# Altium footprint library USB-TTL Converter.PcbLib: 9 footprints
Each footprint in its own frame and in the unit in brackets; x right, y up, seen from the top. Pads: shape width x height; smd on the part's side, far side on the other; paste and mask are expansions set on the pad; w line width, h text height; cw(c..) or ccw(c..) is an arc to the next point about the centre after c.
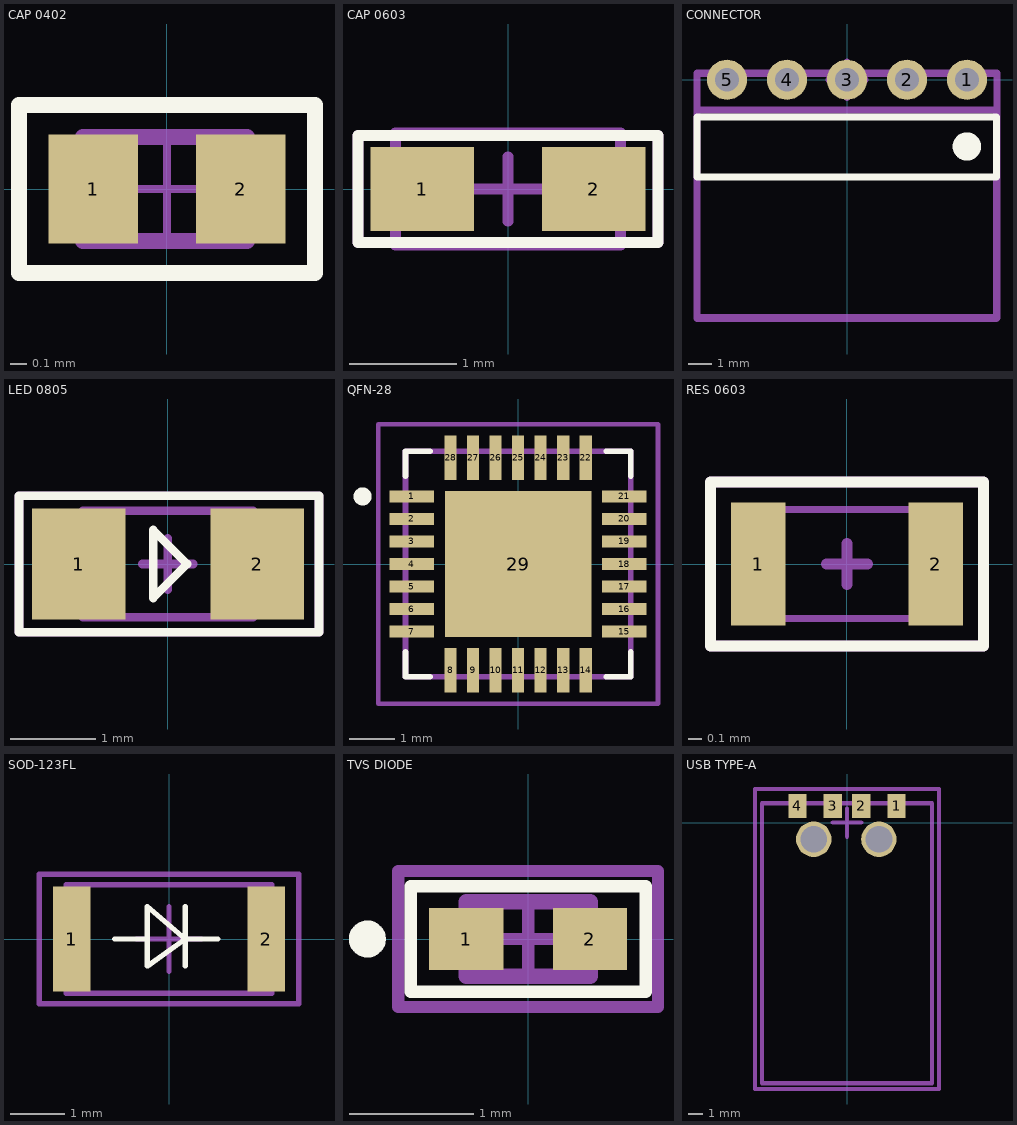
[diagram p0: the footprints below, top view; thin cyan lines are the x and y axes]

## CAP 0402 [mm]
pads (2):
  rect 0.56x0.68 smd: 1(-0.46,0) 2(0.46,0)
Top Overlay:
  lines w0.1: -0.925,-0.525 0.925,-0.525 0.925,0.525 -0.925,0.525 -0.925,-0.525
Top 3D Body:
  lines w0.1: -0.525,-0.325 0.5,-0.325 0.5,0.325 -0.525,0.325 -0.525,-0.325
Top Designator (Mech7):
  lines w0.05: -0.925,-0.525 0.95,-0.525 0.95,0.525 -0.925,0.525 -0.925,-0.525
  text ".Designator" at -0.325,-0.183 h0.5
Top Component Center (Mech9):
  lines w0.05: -0.3,0 0,0 ; 0,-0.3 0,0 ; 0,0.3 0,0 ; 0.3,0 0,0 ; -0.925,-0.525 -0.925,0.525 0.95,0.525 0.95,-0.525 -0.925,-0.525
3D body "step_temp.STEP": height 0.5, standoff 0, extent -0.5,-0.326 0.5,0.324

## CAP 0603 [mil]
pads (2):
  rect 38x31 smd mask+1.97: 1(-31.5,0) 2(31.5,0)
Top Overlay:
  lines w3.94: -55.12,-19.68 27.56,-19.68 55.12,-19.68 55.12,19.68 -51.18,19.68 -55.12,19.68 -55.12,-19.68
Top 3D Body:
  lines w3.94: -41.34,-20.67 41.34,-20.67 41.34,20.67 -41.34,20.67 -41.34,-20.67
Top Designator (Mech7):
  lines w3.94: -53.15,19.68 11.81,19.68 55.12,19.68 55.12,-19.68 -55.12,-19.68 -55.12,19.68 -39.37,19.68
  text ".Designator" at -39.37,-9.19 h19.68
Top Component Center (Mech9):
  lines w3.94: -55.12,19.68 -55.12,-19.68 -13.78,-19.68 55.12,-19.68 55.12,19.68 -53.15,19.68 ; -11.81,0 11.81,0 ; 0,-11.81 0,11.81
3D body "CAPC0603.STEP": height 30.75, standoff -0.75, extent -41.35,-20.51 41.35,20

## CONNECTOR [mm]
pads (5):
  round 1.7 hole 1 mask+0.05: 1(5.08,0) 2(2.54,0) 3(0,0) 4(-2.54,0) 5(-5.08,0)
Top Overlay:
  circle w0.8: c5.075,-2.825 r0.2
  lines w0.3: -6.35,-4.125 6.325,-4.125 6.325,-1.575 -6.35,-1.575 -6.35,-4.125
Top 3D Body:
  lines w0.3: -6.35,-10.075 6.35,-10.075 6.35,0.275 -6.35,0.275 -6.35,-10.075
Top Designator (Mech7):
  lines w0.3: -6.35,-10.086 6.348,-10.086 6.348,-1.275 -6.35,-1.275 -6.35,-10.086
  text ".Designator" at -1.225,-6.084 h2
Top Component Center (Mech9):
  lines w0.3: -0.75,0 0,0 ; 0,-0.75 0,0 ; 0,0.75 0,0 ; 0.75,0 0,0 ; -6.35,-10.1 -6.35,-1.275 6.325,-1.275 6.325,-10.1 -6.35,-10.1
3D body "61300511021_Download_STP_61300511021_rev1.stp": height 2.57, standoff -2.97, extent -6.35,-10.07 6.35,0.29

## LED 0805 [mm]
pads (2):
  rect 1.1x1.3 smd mask+0.05: 1(-1.05,0) 2(1.05,0)
Top Overlay:
  lines w0.1: -1.75,-0.8 1.775,-0.8 1.775,0.8 -1.75,0.8 -1.75,-0.8 ; -0.175,-0.4 0.225,0 -0.175,0.4 -0.175,-0.4
Top 3D Body:
  lines w0.1: -1,-0.625 -1,0.625 1,0.625 1,-0.625 -1,-0.625
Top Designator (Mech7):
  lines w0.1: -1.75,-0.8 1.775,-0.8 1.775,0.8 -1.75,0.8 -1.75,-0.8
  text ".Designator" at -0.625,-0.517 h1
Top Component Center (Mech9):
  lines w0.1: -0.3,0 0,0 ; 0,-0.3 0,0 ; 0,0.3 0,0 ; 0.3,0 0,0 ; -1.75,-0.8 1.775,-0.8 1.775,0.8 -1.75,0.8 -1.75,-0.8
3D body "Download_STP_WL-SMCW-0805_rev1.stp": height 0.7, standoff 0, extent -1,-0.625 1,0.625

## QFN-28 [mm]
pads (29):
  rect 0.99x0.27 smd: 1(-2.36,1.5) 2(-2.36,1) 3(-2.36,0.5) 4(-2.36,0) 5(-2.36,-0.5) 6(-2.36,-1) 7(-2.36,-1.5) 15(2.36,-1.5) 16(2.36,-1) 17(2.36,-0.5) 18(2.36,0) 19(2.36,0.5) 20(2.36,1) 21(2.36,1.5)
  rect 0.27x0.99 smd: 8(-1.5,-2.36) 9(-1,-2.36) 10(-0.5,-2.36) 11(0,-2.36) 12(0.5,-2.36) 13(1,-2.36) 14(1.5,-2.36) 22(1.5,2.36) 23(1,2.36) 24(0.5,2.36) 25(0,2.36) 26(-0.5,2.36) 27(-1,2.36) 28(-1.5,2.36)
  rect 3.25x3.25 smd paste-0.597: 29(0,0)
Top Overlay:
  circle w0.2: c-3.455,1.5 r0.1
  lines w0.127: -2.5,-1.955 -2.5,-2.5 -1.955,-2.5 ; -2.5,1.955 -2.5,2.5 -1.955,2.5 ; 1.955,-2.5 2.5,-2.5 2.5,-1.955 ; 1.955,2.5 2.5,2.5 2.5,1.955
Top 3D Body:
  lines w0.127: -2.5,-2.5 2.5,-2.5 2.5,2.5 -2.5,2.5 -2.5,-2.5
Top Designator (Mech7):
  lines w0.1: -3.105,-3.105 -3.105,3.105 3.105,3.105 3.105,-3.105 -3.105,-3.105
  text ".Designator" at -0.725,-0.717 h1
Top Component Center (Mech9):
  lines w0.1: -3.105,-3.105 -3.105,3.105 3.105,3.105 3.105,-3.105 -3.105,-3.105
3D body "step_temp.STEP": height 0.77, standoff -0.03, extent -2.5,-2.5 2.5,2.5

## RES 0603 [mm]
pads (2):
  rect 0.4x0.9 smd mask+0.05: 1(-0.65,0) 2(0.65,0)
Top Overlay:
  lines w0.08: -1,-0.6 1,-0.6 1,0.6 -1,0.6 -1,-0.6
Top 3D Body:
  lines w0.05: -0.8,-0.4 -0.8,0.4 0.8,0.4 0.8,-0.4 -0.8,-0.4
Top Designator (Mech7):
  lines w0.08: -1,-0.6 -1,0.6 1,0.6 1,-0.6 -1,-0.6
  text ".Designator" at -0.27,-0.27 h0.6
Top Component Center (Mech9):
  lines w0.08: -0.15,0 0,0 ; 0,-0.15 0,0 ; 0,0.15 0,0 ; 0.15,0 0,0 ; -1,-0.6 1,-0.6 1,0.6 -1,0.6 -1,-0.6
3D body "RC0603FR-0747KL.step": height 0.55, standoff 0, extent -0.8,-0.4 0.8,0.4

## SOD-123FL [mm]
pads (2):
  rect 0.7x1.95 smd mask+0.102: 1(-1.8,0) 2(1.8,0)
Top Overlay:
  lines w0.1: -1,0 -0.4,0 -0.4,0.6 ; 0.9,0 0.3,0 ; -0.4,0.6 -0.4,-0.5 0.3,0 ; -0.4,0.6 0.3,0 ; 0.3,0 0.3,0.6 0.3,0 ; 0.3,0 0.3,-0.5 0.3,0
Top 3D Body:
  lines w0.1: -1.9,-1 -1.9,1 1.9,1 1.9,-1 -1.9,-1
Top Designator (Mech7):
  lines w0.1: -2.4,-1.2 2.4,-1.2 2.4,1.2 -2.4,1.2 -2.4,-1.2
  text ".Designator" at -0.2,-0.633 h1.4
Top Component Center (Mech9):
  lines w0.1: -0.6,0 0,0 ; 0,-0.6 0,0 ; 0,0.6 0,0 ; 0.6,0 0,0 ; -2.4,-1.2 -2.4,1.2 2.4,1.2 2.4,-1.2 -2.4,-1.2
3D body "CR_SOD-123FL_SME.step": height 1.4, standoff 0, extent -1.93,-0.978 1.93,0.978

## TVS DIODE [mm]
pads (2):
  rect 0.6x0.5 smd: 1(-0.5,0) 2(0.5,0)
Top Overlay:
  circle w0.15: c-1.3,0 r0.075
  lines w0.1: -0.95,-0.425 -0.95,0.425 0.95,0.425 0.95,-0.425 -0.95,-0.425
Top 3D Body:
  lines w0.127: -0.5,-0.3 0.5,-0.3 0.5,0.3 -0.5,0.3 -0.5,-0.3
Top Designator (Mech7):
  lines w0.1: -1.05,-0.55 -1.05,0.55 1.05,0.55 1.05,-0.55 -1.05,-0.55
  text ".Designator" at -0.225,-0.233 h0.5
Top Component Center (Mech9):
  lines w0.1: -0.25,0 0,0 ; 0,-0.25 0,0 ; 0,0.25 0,0 ; 0.25,0 0,0 ; -1.05,-0.55 -1.05,0.55 1.05,0.55 1.05,-0.55 -1.05,-0.55
3D body "TPD1E10B06DPYR.STEP": height 0.45, standoff 0, extent -0.5,-0.3 0.5,0.3

## USB TYPE-A [mm]
pads (6):
  rect 1.3x1.7 smd mask+0.05: 1(3.5,1.175) 2(1,1.175) 3(-1,1.175) 4(-3.5,1.175)
  round 2.5 hole 1.9 mask+0.05: ""(-2.35,-1.175) ""(2.25,-1.175)
Top 3D Body:
  lines w0.3: -6,-18.425 -6,1.375 6,1.375 6,-18.425 -6,-18.425
Top Designator (Mech7):
  lines w0.3: -6.5,-18.825 -6.5,2.375 6.5,2.375 6.5,-18.825 -6.5,-18.825
  text ".Designator" at -1.5,-8.4 h3
Top Component Center (Mech9):
  lines w0.3: -1,0 0,0 ; 0,-1 0,0 ; 0,1 0,0 ; 1,0 0,0 ; -6.5,-18.825 -6.5,2.375 6.5,2.375 6.5,-18.825 -6.5,-18.825
3D body "Download_STP_629004113921_rev1.stp": height 2.25, standoff -2.25, extent -6,-18.425 6,1.375